# Altium integrated library Infineon_Automotive_System_IC.IntLib: 25 symbols (part 3 of 3)
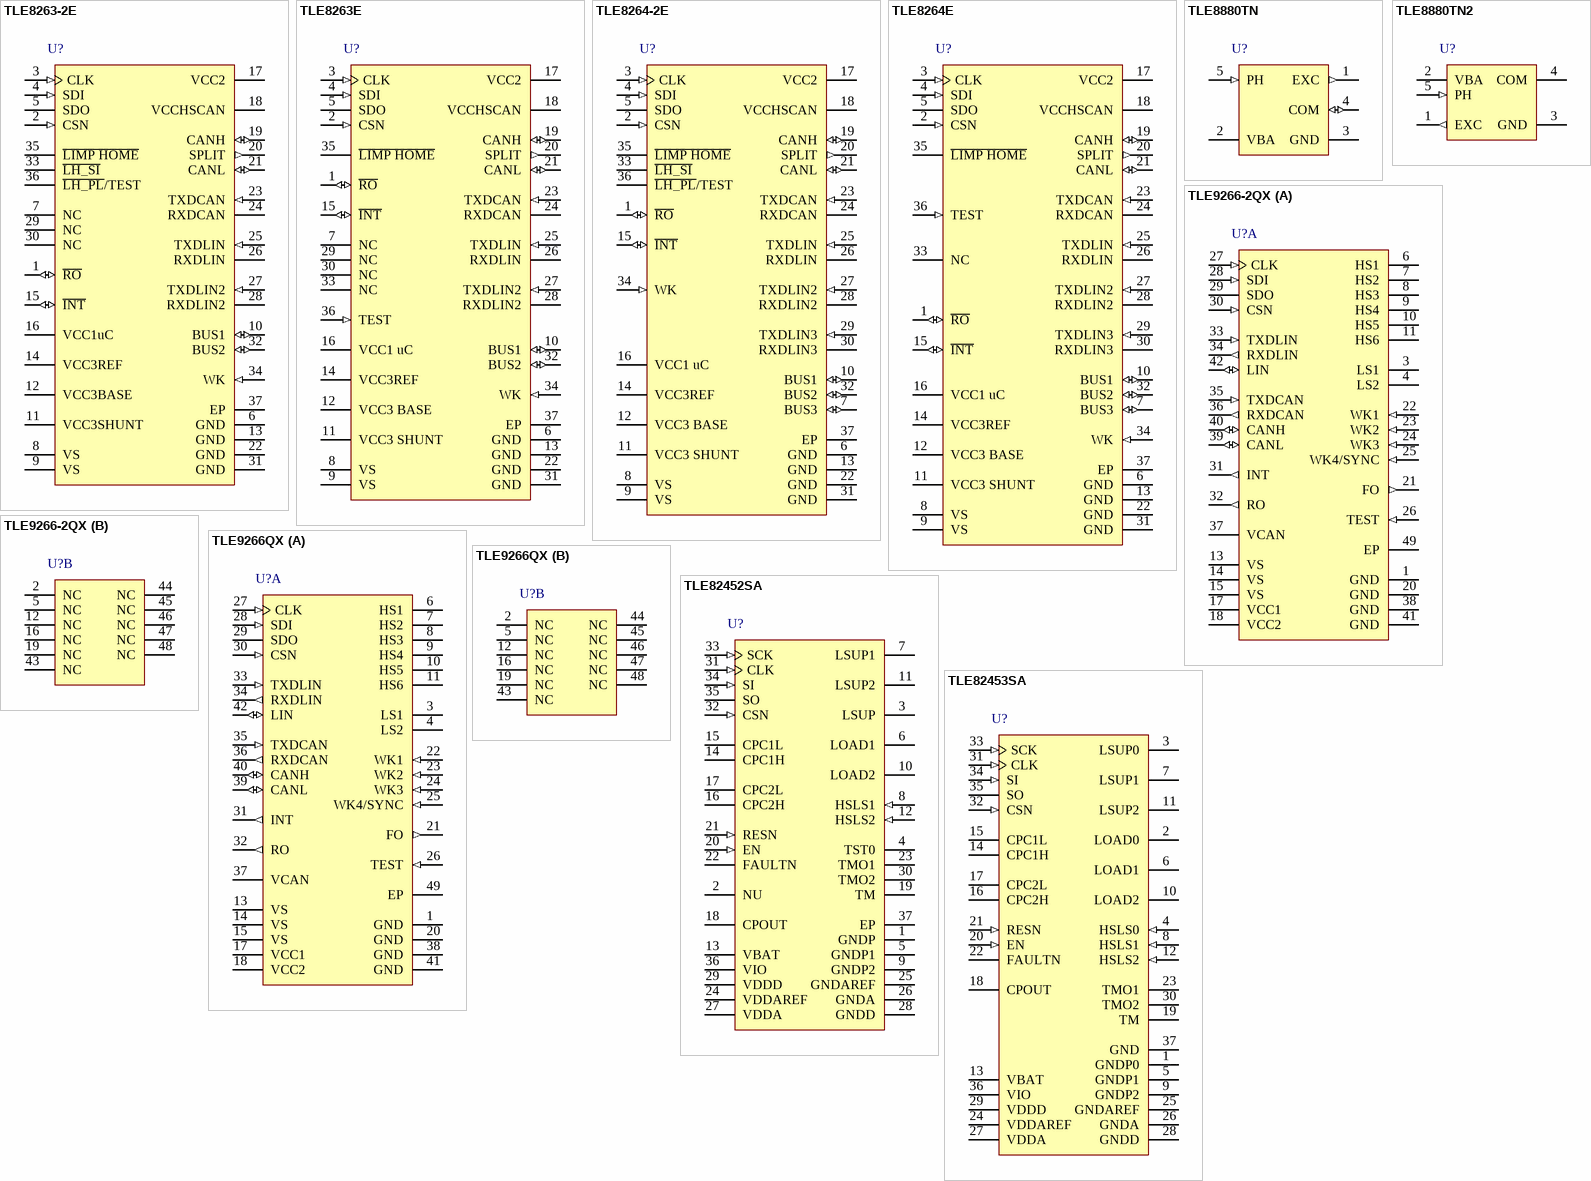
[diagram p3: symbols TLE8263-2E to TLE82453SA]

## TLE8264E
designator U?
Universal System Basis Chip HERMES with Standard and Window Watchdog, PG-DSO-36-38, Reel, Green; Manufacturer: Infineon; PartNumber: TLE8264E; Failure Management: Fail-Safe Mode Limp-Home Output CAN Failure Detection; Green: TRUE; Group: High Speed CAN + LIN; Quiescent Current (max.): 28 uA (typ) Sleep Mode (5V on); Standby Current: 58 uA (typ) Stop Mode (5V on); Transceiver: High Speed CAN ISO 11898 - 5 / 3 x LIN2.1 / J2602; Voltage Regulator Output: 2 x 200 mA + 400 mA; Wake-up inputs: Wake Pin, CAN, LIN; DatasheetVersion: Rev. 1.0; PackageVersion: Apr-09; PackageReference: PG-DSO-36-38; PackageDescription: 36-Pin Plastic (Green) Dual Small Outline Package, 12.7 x 7.5 mm Body, 0.65 mm Pitch; Supplier 1: Mouser; Supplier Part Number 1: 726-TLE8264E; Supplier 2: Digi-Key; Supplier Part Number 2: TLE8264E-ND; Halogen-free: TRUE; Packing: Reel; Watchdog: Standard and Window Watchdog; Mounting Technology: Surface Mount; ComponentLink1Description: Manufacturer URL; ComponentLink1URL: http://www.infineon.com/; ComponentLink2Description: Datasheet; ComponentLink2URL: http://www.infineon.com/dgdl/TLE8264E_DS_100.pdf?folderId=db3a30431ed1d7b2011edadb13813703&fileId=db3a304327b8975001281fdebc7b4560&location=en.Products.Automotive_ICs.System_Basis_Chips__SBC_.DATASHEET.TLE8264E_DS_100.pdf; ComponentLink3Description: Package Specification; ComponentLink3URL: http://www.infineon.com/dgdl/PG-DSO-36-24%2C-38%2C-41%2C-42%2C-50-Package_Overview.pdf?folderId=db3a304316f66ee801179ce26c705f4a&fileId=db3a304319c6f18c011a3ac6ea200605
footprint INF-PG-DSO-36-38-7000X5100TP_N (SOP, 36-Leads, Body 12.7x7.5mm, Pitch 0.65mm, Thermal Pad 7x5.1mm, IPC Medium Density)
footprint INF-PG-DSO-36-38-7000X5100TP_L (SOP, 36-Leads, Body 12.7x7.5mm, Pitch 0.65mm, Thermal Pad 7x5.1mm, IPC High Density)
footprint INF-PG-DSO-36-38-7000X5100TP_M (SOP, 36-Leads, Body 12.7x7.5mm, Pitch 0.65mm, Thermal Pad 7x5.1mm, IPC Low Density)
pins: 1 ~{RO} (io) "Reset Input/Output; open drain output, integrated pull-up resistor; active low.", 2 CSN (in) "SPI Chip Select Not Input; CSN is an active low input; serial communication is enabled by pulling the CSN terminal low; CSN input should be set to low only when CLK is low; CSN has an internal pull-up resistor and requires (See Datasheet)", 3 CLK (in) "SPI Clock Input; clock input for shift register; CLK has an internal pull-down resistor and requires CMOS logic level inputs.", 4 SDI (in) "SPI Data Input; receives serial data from the control device; serial data transmitted to SDI is a 16-bit control word with the Least Significant Bit (LSB) transferred first: the input has a pull-down resistor and requires (See Datasheet)", 5 SDO (hiz) "SPI Data Output; this tri-state output transfers diagnostic data to the control device; the output will remain tri-stated unless the device is selected by a low on Chip Select Not (CSN).", 6 GND (power) "Ground", 7 BUS3 (io) "LIN Bus 3; Bus line for the LIN interface, according to ISO 9141 and LIN specification 2.1 as well as SAE J2602-2.", 8 VS (power) "Power Supply Input; block to GND directly at the IC with ceramic capacitor. Ensure to have no current flow from PIN8 to PIN9. PIN8 and PIN9 can be directly connected.", 9 VS (power) "Power Supply Input; block to GND directly at the IC with ceramic capacitor. Ensure to have no current flow from PIN8 to PIN9. PIN8 and PIN9 can be directly connected.", 10 BUS1 (io) "LIN Bus 1; Bus line for the LIN interface, according to ISO 9141 and LIN specification 2.1 as well as SAE J2602-2.", 11 VCC3 SHUNT (power) "PNP Shunt; External PNP emitter voltage.", 12 VCC3 BASE (power) "PNP Base; External PNP base voltage.", 13 GND (power) "Ground", 14 VCC3REF (power) "External PNP Output Voltage", 15 ~{INT} (io) "Interrupt Output, configuration Input; used as wake-up flag from SBC Stop Mode and indicating failures. Active low. Integrated pull up. During start-up used to set the SBC configuration. External Pull-up sets config 1/3, no (See Datasheet)", 16 VCC1 uC (power) "Voltage Regulator Output; 5 V supply; to stabilize block to GND with an external capacitor.", 17 VCC2 (power) "Voltage Regulator Output; 5 V supply; to stabilize block to GND with an external capacitor.", 18 VCCHSCAN (power) "Supply Input; for the internal HS CAN cell.", 19 CANH (io) "CAN High Line; High in dominant state.", 20 SPLIT (out) "Termination Output; to support recessive voltage level of the bus lines.", 21 CANL (io) "CAN Low Line; Low in dominant state.", 22 GND (power) "Ground", 23 TXDCAN (in) "CAN Transmit Data Input; integrated pull-up resistor.", 24 RXDCAN (hiz) "CAN Receive Data Output", 25 TXDLIN (in) "LIN Transceiver Data input; according to ISO 9141 and LIN specification 2.1 as well as SAE J2602-2. integrated pull-up resistor.", 26 RXDLIN (hiz) "LIN Transceiver Data Output; according to the ISO 9141 and LIN specification 2.1 as well as SAE J2602-2; push-pull output; LOW in dominant state.", 27 TXDLIN2 (in) "LIN Transceiver Data Input; according to ISO 9141 and LIN specification 2.1 as well as SAE J2602-2. integrated pull-up resistor.", 28 RXDLIN2 (hiz) "LIN Transceiver Data Output; according to the ISO 9141 and LIN specification 2.1 as well as SAE J2602-2; push-pull output; LOW in dominant state.", 29 TXDLIN3 (in) "LIN Transceiver Data Input; according to ISO 9141 and LIN specification 2.1 as well as SAE J2602-2. integrated pull-up resistor.", 30 RXDLIN3 (hiz) "LIN Transceiver Data Output; according to the ISO 9141 and LIN specification 2.1 as well as SAE J2602-2; push-pull output; LOW in dominant state.", 31 GND (power) "Ground", 32 BUS2 (io) "LIN Bus 2; Bus line for the LIN interface, according to ISO 9141 and LIN specification 2.1 as well as SAE J2602-2.", 33 NC "Not connected", 34 WK (in) "Monitoring / Wake-Up Input; bi-level sensitive input used to monitor signals coming from, for example, an external switch panel; also used as wake-up input;", 35 ~{LIMP HOME} (hiz) "Fail-Safe Function Output; Open drain. Active LOW.", 36 TEST (in) "SBC SW Development Mode entry; Connect to GND for activation; Integrated pullup resistor. Connect to VS or leave open for normal operation.", 37 EP "Exposed Die Pad; For cooling purposes only, do not use it as an electrical ground.1"

## TLE8880TN
designator U?
Alternator Control with LIN Interface, 6 to 18 V, PG-TO220-5, Tube, Green; Manufacturer: Infineon; PartNumber: TLE8880TN; Adjustable Regulation Range (max): 16 V; Adjustable Regulation Range (min): 10.6 V; EEPROM adjustable: TRUE; ESD Protection: 8 kV; Interface: LIN 1.3; RDS (on) (typ): 60 mOhm; Standby Current: 60 uA; Supply Voltage (max): 18 V; Supply Voltage (min): 6 V; Tj (max): 175 degC; DatasheetVersion: Rev. 2.3; PackageVersion: Oct-07; PackageReference: PG-TO220-5-12; PackageDescription: 5-Pin Plastic (Green) Transistor Single Outline Package, 10 x 9.25 mm Body, 1.7 mm Pitch; Supplier 1: Mouser; Supplier Part Number 1: N/A; Assembly Type: Soldering; Green: TRUE; Halogen-free: TRUE; Packing: Tube; Mounting Technology: Through Hole; ComponentLink1Description: Manufacturer URL; ComponentLink1URL: http://www.infineon.com/; ComponentLink2Description: Datasheet; ComponentLink2URL: http://www.infineon.com/dgdl/TLE8880-Datasheet-v2.3.pdf?folderId=db3a30431ddc9372011e26863f92474e&fileId=5546d461464245d301468a9fd2aa663f&ack=t; ComponentLink3Description: Package Specification; ComponentLink3URL: http://www.infineon.com/cms/packages/Leaded_and_through-hole/P-PG-TO220/P-PG-TO220-5-12.html?__locale=en
footprint INF-PG-TO220-5-12 (FM, 5-Leads, Body 10x4.4mm, Pitch 1.7mm)
pins: 1 EXC (out) "Excitation Output; Output to be connected with excitation coil of generator.", 2 VBA (power) "Supply Voltage; Connected to Battery", 3 GND (power) "Ground; Signal ground", 4 COM (io) "COM; Terminal of the LIN interface", 5 PH (in) "Phase Input; To be connected with one of the phases of the generator"

## TLE8880TN2
designator U?
Alternator Control with LIN Interface, 6 to 18 V, PG-TO220-5, Tube, Green; Manufacturer: Infineon; PartNumber: TLE8880TN2; Adjustable Regulation Range (max): 16 V; Adjustable Regulation Range (min): 10.6 V; EEPROM adjustable: TRUE; ESD Protection: 8 kV; Interface: LIN 1.3; RDS (on) (typ): 60 mOhm; Standby Current: 60 uA; Supply Voltage (max): 18 V; Supply Voltage (min): 6 V; Tj (max): 175 degC; DatasheetVersion: Rev. 2.3; PackageVersion: Oct-07; PackageReference: PG-TO220-5-12; PackageDescription: 5-Pin Plastic (Green) Transistor Single Outline Package, 10 x 9.25 mm Body, 1.7 mm Pitch; Assembly Type: Welding; Green: TRUE; Halogen-free: TRUE; Packing: Tube; Mounting Technology: Through Hole; ComponentLink1Description: Manufacturer URL; ComponentLink1URL: http://www.infineon.com/; ComponentLink2Description: Datasheet; ComponentLink2URL: http://www.infineon.com/dgdl/TLE8880-Datasheet-v2.3.pdf?folderId=db3a30431ddc9372011e26863f92474e&fileId=5546d461464245d301468a9fd2aa663f&ack=t; ComponentLink3Description: Package Specification; ComponentLink3URL: http://www.infineon.com/cms/packages/Leaded_and_through-hole/P-PG-TO220/P-PG-TO220-5-12.html?__locale=en
footprint INF-PG-TO220-5-12 (FM, 5-Leads, Body 10x4.4mm, Pitch 1.7mm)
pins: 1 EXC (out) "Excitation Output; Output to be connected with excitation coil of generator.", 2 VBA (power) "Supply Voltage; Connected to Battery", 3 GND (power) "Ground; Signal ground", 4 COM "COM; Terminal of the LIN interface", 5 PH (in) "Phase Input; To be connected with one of the phases of the generator"

## TLE9266-2QX
designator U?
System Basis Chip with Window Watchdog, -40 to 150 degC, PG-VQFN-48, Reel, Green; Manufacturer: Infineon; PartNumber: TLE9266-2QX; Failure Management: Fail-Safe Mode, Fail Output, CAN/LIN Failure Detection; Green: TRUE; Output drivers: 2 x Low-Side Switch 250 mA, 2 x High-Side Switch 250 mA, 4 x High-Side Switch 150 mA; Quiescent Current (max.): 25 uA (typ) Sleep Mode (5V off); Standby Current: 53 uA (typ) Stop Mode (5V on); Transceiver: High Speed CAN ISO 11898 - 5 / 1 x LIN2.2 / J2602; Voltage Regulator Output: 250 mA + 100 mA; Wake-up inputs: 4 Wake Pins (cyclic sense), CAN, LIN; DatasheetVersion: Rev. 1.0; PackageReference: PG-VQFN-48-31; PackageDescription: 48-Pin Plastic (Green) Very Thin Profile Quad Flat Non Leaded Package, 7 x 7 mm Body, 0.5 mm Pitch; Supplier 1: Mouser; Supplier Part Number 1: N/A; Halogen-free: TRUE; Packages: PG-VQFN-48; Packing: Reel; Watchdog: Window Watchdog; Mounting Technology: Surface Mount; ComponentLink1Description: Manufacturer URL; ComponentLink1URL: http://www.infineon.com/; ComponentLink2Description: Datasheet; ComponentLink2URL: http://www.infineon.com/dgdl/TLE9266-2QX-Data-Sheet-10-Infineon.pdf?folderId=db3a30433f764301013f7a44e842227d&fileId=db3a3043405f2978014061d15c85272f; ComponentLink3Description: Package Specification; ComponentLink3URL: http://www.infineon.com/cms/packages/SMD_-_Surface_Mounted_Devices/P-PG-VQFN/P-PG-VQFN-048-29x_-31.html?__locale=en
footprint INF-PG-VQFN-48-31_V (QFN, 48-Leads, Body 7x7mm, Pitch 0.5mm, Thermal Pad 5.2x5.2mm)
part A pins: 1 GND (power) "Ground;", 3 LS1 (power) "Low-Side Output 1;", 4 LS2 (power) "Low-Side Output 2;", 6 HS1 (power) "High-Side Output 1; typ. 2ohm", 7 HS2 (power) "High-Side Output 2; typ. 2ohm.", 8 HS3 (power) "High-Side Output 3; typ. 7ohm", 9 HS4 (power) "High-Side Output 4; typ. 7ohm", 10 HS5 (power) "High-Side Output 5; typ. 7ohm", 11 HS6 (power) "High-Side Output 6; typ. 7ohm", 13 VS (power) "Supply Voltage; Connected to Battery Voltage with Reverse protection Diode and Filter against EMC", 14 VS (power) "Supply Voltage; Connected to Battery Voltage with Reverse protection Diode and Filter against EMC", 15 VS (power) "Supply Voltage; Connected to Battery Voltage with Reverse protection Diode and Filter against EMC", 17 VCC1 (power) "Voltage Regulator Output 1;", 18 VCC2 (power) "Voltage Regulator Output 2;", 20 GND (power) "GND;", 21 FO (out) "Fail Output;", 22 WK1 (in) "Wake Input 1;", 23 WK2 (in) "Wake Input 2;", 24 WK3 (in) "Wake Input 3;", 25 WK4/SYNC (in) "Wake Input 4 (Low-Voltage) / Synchronization Input for cyclic sense / cyclic wake;", 26 TEST (in) "TEST Pin;", 27 CLK (in) "SPI Clock Input;", 28 SDI (in) "SPI Data Input; into SBC (=MOSI)", 29 SDO (hiz) "SPI Data Output; out of SBC (=MISO)", 30 CSN (in) "SPI Chip Select Not Input;", 31 INT (out) "Interrupt Output;", 32 RO (out) "Reset Output;", 33 TXDLIN (in) "Transmit LIN;", 34 RXDLIN (out) "Receive LIN;", 35 TXDCAN (in) "Transmit CAN;", 36 RXDCAN (out) "Receive CAN;", 37 VCAN (power) "Supply Input; for internal HS-CAN cell", 38 GND (power) "GND;", 39 CANL (io) "CAN Low Bus Pin;", 40 CANH (io) "CAN High Bus Pin;", 41 GND (power) "Ground;", 42 LIN (io) "LIN Bus; Bus line for the LIN interface, according to ISO. 9141 and LIN specification 2.2 as well as SAE J2602-2.", 49 EP (power) "Cooling Tab - Exposed Die Pad; For cooling purposes only, do not use as an electrical ground."
part B pins: 2 NC "not connected;", 5 NC "not connected;", 12 NC "not connected;", 16 NC "not connected;", 19 NC "not connected;", 43 NC "not connected;", 44 NC "not connected;", 45 NC "not connected;", 46 NC "not connected;", 47 NC "not connected;", 48 NC "not connected;"

## TLE9266QX
designator U?
Driver SBC Family with Window Watchdog, -40 to 150 degC, PG-VQFN-48, Reel, Green; Manufacturer: Infineon; PartNumber: TLE9266QX; Failure Management: Fail-Safe Mode, Fail Output, CAN/LIN Failure Detection; Green: TRUE; Output drivers: 2 x Low-Side Switch 250 mA, 2 x High-Side Switch 250 mA, 4 x High-Side Switch 150 mA; Quiescent Current (max.): 25 uA (typ) Sleep Mode (5V off); Standby Current: 53 uA (typ) Stop Mode (5V on); Transceiver: High Speed CAN ISO 11898 - 5 / 1 x LIN2.2 / J2602; Voltage Regulator Output: 250 mA + 100 mA; Wake-up inputs: 4 Wake Pins (cyclic sense), CAN, LIN; DatasheetVersion: Rev. 1.0; PackageReference: PG-VQFN-48-31; PackageDescription: 48-Pin Plastic (Green) Very Thin Profile Quad Flat Non Leaded Package, 7 x 7 mm Body, 0.5 mm Pitch; Supplier 1: Mouser; Supplier Part Number 1: N/A; Halogen-free: TRUE; Packages: PG-VQFN-48; Packing: Reel; Watchdog: Window Watchdog; Mounting Technology: Surface Mount; ComponentLink1Description: Manufacturer URL; ComponentLink1URL: http://www.infineon.com/; ComponentLink2Description: Datasheet; ComponentLink2URL: http://www.infineon.com/dgdl/TLE9266QX-Data-Sheet-10-Infineon.pdf?folderId=db3a30433f764301013f7a44e842227d&fileId=db3a3043405733d3014057b751352ec5; ComponentLink3Description: Package Specification; ComponentLink3URL: http://www.infineon.com/cms/packages/SMD_-_Surface_Mounted_Devices/P-PG-VQFN/P-PG-VQFN-048-29x_-31.html?__locale=en
footprint INF-PG-VQFN-48-31_V (QFN, 48-Leads, Body 7x7mm, Pitch 0.5mm, Thermal Pad 5.2x5.2mm)
part A pins: 1 GND (power) "Ground;", 3 LS1 (power) "Low-Side Output 1;", 4 LS2 (power) "Low-Side Output 2;", 6 HS1 (power) "High-Side Output 1; typ. 2ohm", 7 HS2 (power) "High-Side Output 2; typ. 2ohm.", 8 HS3 (power) "High-Side Output 3; typ. 7ohm", 9 HS4 (power) "High-Side Output 4; typ. 7ohm", 10 HS5 (power) "High-Side Output 5; typ. 7ohm", 11 HS6 (power) "High-Side Output 6; typ. 7ohm", 13 VS (power) "Supply Voltage; Connected to Battery Voltage with Reverse protection Diode and Filter against EMC", 14 VS (power) "Supply Voltage; Connected to Battery Voltage with Reverse protection Diode and Filter against EMC", 15 VS (power) "Supply Voltage; Connected to Battery Voltage with Reverse protection Diode and Filter against EMC", 17 VCC1 (power) "Voltage Regulator Output 1;", 18 VCC2 (power) "Voltage Regulator Output 2;", 20 GND (power) "GND;", 21 FO (out) "Fail Output;", 22 WK1 (in) "Wake Input 1;", 23 WK2 (in) "Wake Input 2;", 24 WK3 (in) "Wake Input 3;", 25 WK4/SYNC (in) "Wake Input 4 (Low-Voltage) / Synchronization Input for cyclic sense / cyclic wake;", 26 TEST (in) "TEST Pin;", 27 CLK (in) "SPI Clock Input;", 28 SDI (in) "SPI Data Input; into SBC (=MOSI)", 29 SDO (hiz) "SPI Data Output; out of SBC (=MISO)", 30 CSN (in) "SPI Chip Select Not Input;", 31 INT (out) "Interrupt Output;", 32 RO (out) "Reset Output;", 33 TXDLIN (in) "Transmit LIN;", 34 RXDLIN (out) "Receive LIN;", 35 TXDCAN (in) "Transmit CAN;", 36 RXDCAN (out) "Receive CAN;", 37 VCAN (power) "Supply Input; for internal HS-CAN cell", 38 GND (power) "GND;", 39 CANL (io) "CAN Low Bus Pin;", 40 CANH (io) "CAN High Bus Pin;", 41 GND (power) "Ground;", 42 LIN (io) "LIN Bus; Bus line for the LIN interface, according to ISO. 9141 and LIN specification 2.2 as well as SAE J2602-2.", 49 EP (power) "Cooling Tab - Exposed Die Pad; For cooling purposes only, do not use as an electrical ground."
part B pins: 2 NC "not connected;", 5 NC "not connected;", 12 NC "not connected;", 16 NC "not connected;", 19 NC "not connected;", 43 NC "not connected;", 44 NC "not connected;", 45 NC "not connected;", 46 NC "not connected;", 47 NC "not connected;", 48 NC "not connected;"

## TLE82452SA
designator U?
2 Channel High-Side and Low-Side Linear Solenoid Driver IC, PG-DSO-36, Reel, Green; Manufacturer: Infineon; PartNumber: TLE82452SA; Channels: 2; Green: TRUE; Output Current: 1.6 A; RDS (on) (max): 250 mOhm; SPI: 32 Bit; DatasheetVersion: Rev. 1.0; PackageVersion: Aug-09; PackageReference: PG-DSO-36-26; PackageDescription: 36-Pin Plastic (Green) Dual Small Outline Package, 15.9 x 11 mm Body, 0.65 mm Pitch; Supplier 1: Mouser; Supplier Part Number 1: N/A; Halogen-free: TRUE; Packing: Reel; Mounting Technology: Surface Mount; ComponentLink1Description: Manufacturer URL; ComponentLink1URL: http://www.infineon.com/; ComponentLink2Description: Datasheet; ComponentLink2URL: http://www.infineon.com/dgdl/TLE82452_ds_10.pdf?folderId=db3a30431b3e89eb011bb632994f065b&fileId=db3a30433f12d084013f132b9aac00e0; ComponentLink3Description: Package Specification; ComponentLink3URL: http://www.infineon.com/cms/packages/SMD_-_Surface_Mounted_Devices/P-PG-DSO/P-PG-DSO-36-10x_-12x_-15x_-16x_-21x_-23x_-26x_-27.html?__locale=en
footprint INF-PG-DSO-36-26_N (SOP, 36-Leads, Body 15.9x11mm, Pitch 0.65mm, Thermal Pad 16x6mm, IPC Medium Density)
footprint INF-PG-DSO-36-26_L (SOP, 36-Leads, Body 15.9x11mm, Pitch 0.65mm, Thermal Pad 16x6mm, IPC High Density)
footprint INF-PG-DSO-36-26_M (SOP, 36-Leads, Body 15.9x11mm, Pitch 0.65mm, Thermal Pad 16x6mm, IPC Low Density)
pins: 1 GNDP (power) "Ground; Ground connection. Chip damaged if connection lost.", 2 NU "Not Used No connection should be made to this pin.", 3 LSUP (power) "Supply Voltage; Connect to Switched Battery Voltage with reverse protection diode and filter against EMC", 4 TST0 "Test Pin; connect to GND or +5V", 5 GNDP1 (power) "Ground; Ground connection for channel 1 power stage. Chip damaged if connection lost.", 6 LOAD1 (power) "Output Connect a ceramic capacitor of <= 10 nF to GND for ESD protection.", 7 LSUP1 (power) "Supply Voltage; Supplies channel 1. Connect to Switched Battery Voltage with Reverse protection diode and filter against EMC", 8 HSLS1 (in) "Control Input; Digital input. Connect to ground for high-side configuration. Connect to +5V or VBAT for low-side configuration.", 9 GNDP2 (power) "Ground; Ground connection for channel 2 power stage. Chip damaged if connection lost.", 10 LOAD2 (power) "Output; Connect a ceramic capacitor of <= 10 nF to GND for ESD protection.", 11 LSUP2 (power) "Supply; Supplies channel 2. Connect to Switched Battery Voltage with reverse protection diode and filter against EMC", 12 HSLS2 (in) "Control Input; Digital input. Connect to ground for high-side configuration. Connect to +5V or VBAT for low-side configuration.", 13 VBAT (power) "Supply Voltage; Connected to Battery Voltage with reverse protection diode and filter against EMC", 14 CPC1H "Charge Pump; For internal charge pump; connect a ceramic capacitor from this pin to CPC1L", 15 CPC1L "Charge Pump; For internal charge pump; connect a ceramic capacitor from this pin to CPC1H", 16 CPC2H "Charge Pump; For internal charge pump; connect a ceramic capacitor from this pin to CPC2L", 17 CPC2L "Charge Pump; For internal charge pump; connect a ceramic capacitor from this pin to CPC2L", 18 CPOUT (power) "Charge Pump Output For internal charge pump; connect a ceramic storage capacitor from this pin to VBAT. This pin should not be connected to other external components or used as a supply for other circuits.", 19 TM "Test Pin; connect to GND", 20 EN (in) "Control Input; Digital input - 3.3V or 5.0V logic levels. Active high enable input.", 21 RESN (in) "Control Input; Digital input - 3.3V or 5.0V logic levels. Active low reset input.", 22 FAULTN (oc) "Status Output; Open Drain output. In case not used, keep open.", 23 TMO1 "Test Pin; connect to GND", 24 VDDAREF (power) "Supply Voltage; Supplies analog circuits. Connect to 5.0V supply voltage", 25 GNDAREF (power) "Ground; Ground connection for analog circuits", 26 GNDA (power) "Ground; Ground connection for analog circuits", 27 VDDA (power) "Supply Voltage; Supplies analog circuits. Connect to 5.0V supply voltage", 28 GNDD (power) "Ground; Ground connection for digital circuits", 29 VDDD (power) "Supply Voltage; Supplies digital circuits. Connect to 5.0V supply voltage", 30 TMO2 "Test Pin; connect to GND", 31 CLK (in) "Clock Input; Main system clock.", 32 CSN (in) "SPI Chip Select Input; Digital input - 3.3V or 5.0V logic levels.", 33 SCK (in) "SPI Clock Input; Digital input - 3.3V or 5.0V logic levels.", 34 SI (in) "SPI Input; Digital input - 3.3V or 5.0V logic levels.", 35 SO (hiz) "SPI Output; Push Pull output compatible to 3.3 V and 5.0 V logic levels.", 36 VIO (power) "IO Supply; Connected to 3.3 V or 5.0 V supply", 37 EP (power) "Cooling Tab; internally connected to GND."

## TLE82453SA
designator U?
3 Channel High-Side and Low-Side Linear Solenoid Driver IC, 5.5 to 40 V, PG-DSO-36, Reel, Green; Manufacturer: Infineon; PartNumber: TLE82453SA; Channels: 3; Green: TRUE; Output Current: 1.6 A; RDS (on) (max): 250 mOhm; SPI: 32 Bit; DatasheetVersion: Rev 1.0; PackageVersion: Aug-09; PackageReference: PG-DSO-36-26; PackageDescription: 36-Pin Plastic (Green) Dual Small Outline Package, 15.9 x 11 mm Body, 0.65 mm Pitch; Supplier 1: Mouser; Supplier Part Number 1: N/A; Halogen-free: TRUE; Operating Range: 5.5 to 40 V; Packing: Reel; Mounting Technology: Surface Mount; ComponentLink1Description: Manufacturer URL; ComponentLink1URL: http://www.infineon.com/; ComponentLink2Description: Datasheet; ComponentLink2URL: http://www.infineon.com/dgdl/TLE82453_ds_10.pdf?folderId=db3a30431b3e89eb011bb632994f065b&fileId=db3a30433f12d084013f1326123e00d3; ComponentLink3Description: Package Specification; ComponentLink3URL: http://www.infineon.com/cms/packages/SMD_-_Surface_Mounted_Devices/P-PG-DSO/P-PG-DSO-36-10x_-12x_-15x_-16x_-21x_-23x_-26x_-27.html?__locale=en
footprint INF-PG-DSO-36-26_N (SOP, 36-Leads, Body 15.9x11mm, Pitch 0.65mm, Thermal Pad 16x6mm, IPC Medium Density)
footprint INF-PG-DSO-36-26_L (SOP, 36-Leads, Body 15.9x11mm, Pitch 0.65mm, Thermal Pad 16x6mm, IPC High Density)
footprint INF-PG-DSO-36-26_M (SOP, 36-Leads, Body 15.9x11mm, Pitch 0.65mm, Thermal Pad 16x6mm, IPC Low Density)
pins: 1 GNDP0 (power) "Ground; Ground connection for channel 0 power stage. Chip damaged if connection lost", 2 LOAD0 (power) "Output:Connect a ceramic capacitor <= 10 nF to GND for ESD protection.", 3 LSUP0 (power) "Supply Voltage; Supplies channel 0. Connect to Switched Battery Voltage with reverse protection diode and filter against EMC", 4 HSLS0 (in) "Control Input; Digital input. Connect to ground for high-side configuration. Connect to +5V or VBAT for low-side configuration.", 5 GNDP1 (power) "Ground; Ground connection for channel 1 power stage. Chip damaged if connection lost.", 6 LOAD1 (power) "Output:Connect a ceramic capacitor of <= 10 nF to GND for ESD protection.", 7 LSUP1 (power) "Supply Voltage; Supplies channel 1. Connect to Switched Battery Voltage with Reverse protection diode and filter against EMC", 8 HSLS1 (in) "Control Input; Digital input. Connect to ground for high-side configuration. Connect to +5V or VBAT for low-side configuration.", 9 GNDP2 (power) "Ground; Ground connection for channel 2 power stage. Chip damaged if connection lost.", 10 LOAD2 (power) "Output;Connect a ceramic capacitor of <= 10 nF to GND for ESD protection.", 11 LSUP2 (power) "Supply;Supplies channel 2. Connect to Switched Battery Voltage with reverse protection diode and filter against EMC", 12 HSLS2 (in) "Control Input; Digital input. Connect to ground for high-side configuration. Connect to +5V or VBAT for low-side configuration.", 13 VBAT (power) "Supply Voltage; Connected to Battery Voltage with reverse protection diode and filter against EMC", 14 CPC1H "Charge Pump; For internal charge pump; connect a ceramic capacitor from this pin to CPC1L", 15 CPC1L "Charge Pump; For internal charge pump; connect a ceramic capacitor from this pin to CPC1H", 16 CPC2H "Charge Pump; For internal charge pump; connect a ceramic capacitor from this pin to CPC2L", 17 CPC2L "Charge Pump; For internal charge pump; connect a ceramic capacitor from this pin to CPC2L", 18 CPOUT (power) "Charge Pump Output:For internal charge pump; connect a ceramic storage capacitor from this pin to VBAT. This pin should not be connected to other external components or used as a supply for other circuits.", 19 TM "Test Pin; connect to GND", 20 EN (in) "Control Input; Digital input - 3.3V or 5.0V logic levels. Active high enable input.", 21 RESN (in) "Control Input; Digital input - 3.3V or 5.0V logic levels. Active low reset input.", 22 FAULTN (oc) "Status Output; Open Drain output. In case not used, keep open.", 23 TMO1 "Test Pin; connect to GND", 24 VDDAREF (power) "Supply Voltage; Supplies analog circuits. Connect to 5.0V", 25 GNDAREF (power) "Ground; Ground connection for analog circuits", 26 GNDA (power) "Ground; Ground connection for analog circuits", 27 VDDA (power) "Supply Voltage; Supplies analog circuits. Connect to 5.0V", 28 GNDD (power) "Ground; Ground connection for digital circuits", 29 VDDD (power) "Supply Voltage; Supplies digital circuits. Connect to 5.0V", 30 TMO2 "Test Pin; connect to GND", 31 CLK (in) "Clock Input; Main system clock.", 32 CSN (in) "SPI Chip Select Input; Digital input - 3.3V or 5.0V logic levels.", 33 SCK (in) "SPI Clock Input; Digital input - 3.3V or 5.0V logic levels.", 34 SI (in) "SPI Input; Digital input - 3.3V or 5.0V logic levels.", 35 SO (hiz) "SPI Output; Push Pull output compatible to 3.3 V and 5.0 V logic levels.", 36 VIO (power) "IO Supply;Connected to 3.3 V or 5.0 V supply", 37 GND (power) "Cooling Tab; internally connected to GND."